# Altium schematic symbol library 53261-0671.SchLib: 1 symbol
Pins are listed as number, name and electrical type; pins without a type are passive.

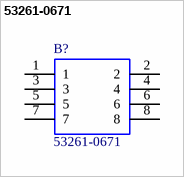
[diagram p0: symbol 53261-0671]

## 53261-0671
designator B?
Molex PICOBLADE Series, Series Number 53261, 1.25mm Pitch 6 Way 1 Row Right Angle PCB Header, Solder Termination, 1A; Geometry.Height: mm; Supplier_Name: RS; RS Part Number: 5427135P; Manufacturer_Name: Molex; Manufacturer_Part_Number: 53261-0671; Allied_Number: *; Other Part Number: *; Datasheet Link: http://docs-europe.electrocomponents.com/webdocs/078f/0900766b8078fc7f.pdf; 3D Package: *
footprint 53261-0671
pins: 1, 2, 3, 4, 5, 6, 7, 8